# Altium footprint library S-DIP-8.PcbLib: 1 footprints
Each footprint in its own frame and in the unit in brackets; x right, y up, seen from the top. Pads: shape width x height; smd on the part's side, far side on the other; paste and mask are expansions set on the pad; w line width, h text height; cw(c..) or ccw(c..) is an arc to the next point about the centre after c.
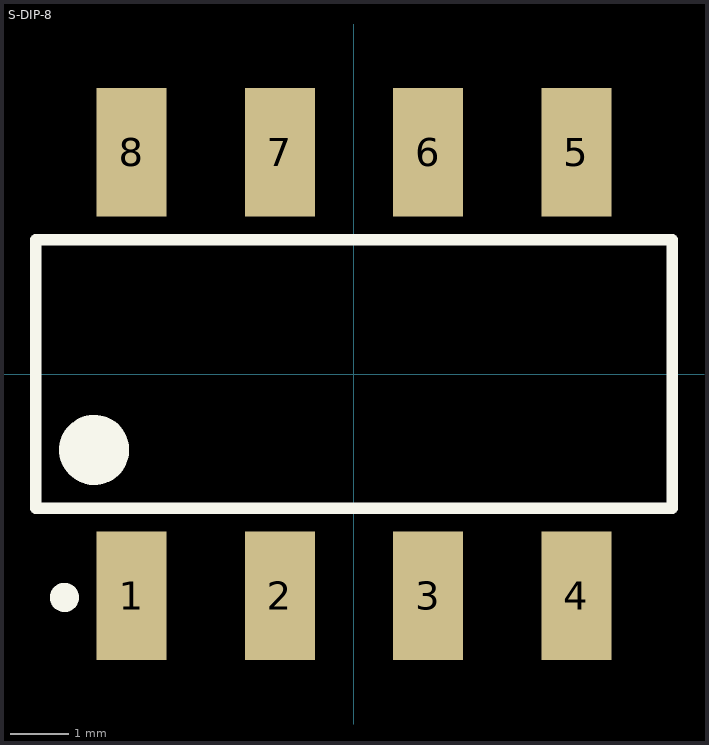
[diagram p0: the footprint, top view; thin cyan lines are the x and y axes]

## S-DIP-8 [mm] "DIP; 8 Trim Leads; Row Spacing 7.62 mm; Pitch 2.54 mm"
height 5.58
pads (8):
  rect 1.2x2.2 smd: 1(-3.81,-3.8) 2(-1.27,-3.8) 3(1.27,-3.8) 4(3.81,-3.8) 5(3.81,3.8) 6(1.27,3.8) 7(-1.27,3.8) 8(-3.81,3.8)
Top Overlay:
  circle w0.6: c-4.45,-1.3 r0.3
  circle w0.25: c-4.96,-3.827 r0.125
  lines w0.2: -5.45,-2.3 5.45,-2.3 5.45,2.3 -5.45,2.3 -5.45,-2.3